# Altium schematic symbol library Booster_Board.SCHLIB: 28 symbols
Pins are listed as number, name and electrical type; pins without a type are passive.

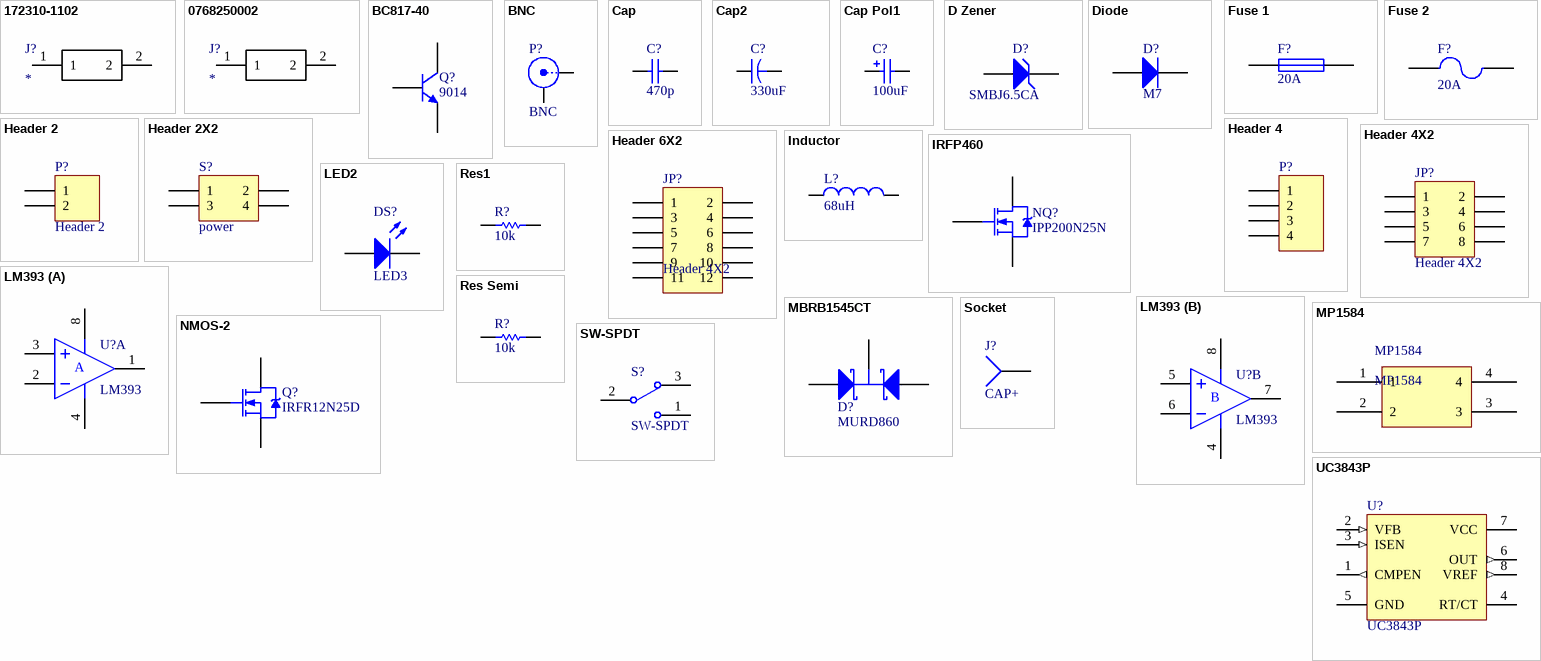
[diagram p0: symbols 172310-1102 to UC3843P]

## 172310-1102
designator J?
Connector; Manufacturer_Name: Molex; Manufacturer_Part_Number: 172310-1102; Allied_Number: 70617676; Datasheet Link: http://www.farnell.com/cad/1986622.pdf; Mouser Part Number: 538-172310-1102; Mouser Price/Stock: https://www.mouser.com/Search/Refine.aspx?Keyword=538-172310-1102; RS Part Number: 8951880; RS Price/Stock: http://uk.rs-online.com/web/p/products/8951880; Allied Price/Stock: http://www.alliedelec.com/molex-incorporated-172310-1102/70617676/
footprint 172310-1102
pins: 1, 2

## 0768250002
designator J?
Connector; Manufacturer_Name: Molex; Manufacturer_Part_Number: 0768250002; Datasheet Link: https://www.molex.com/pdm_docs/sd/768250002_sd.pdf; Height: 16mm; Mouser Part Number: N/A; Mouser Price/Stock: https://www.mouser.com/Search/Refine.aspx?Keyword=N%2FA
footprint 0768250002
pins: 1, 2

## BC817-40
designator Q?, comment 9014
NPN General Purpose Amplifier; Manufacturer: Fairchild Semiconductor; Revised: 11-July-2000: SIM Model Added.; Class: Discrete; SubClass: BJT - Low Power; Published: 8/06/2000; Publisher: Altium Hobart Technology Centre
footprint SOT23A (SOT-23; 3 Leads; Body 3.0 x 2.5 mm, inc. leads (LxW max))
simulation model BC817-40 (NPN)
signal-integrity model BC817-40
pins: 1 B, 2 E, 3 C

## BNC
designator P?
BNC Elbow Connector; LatestRevisionDate: 17-Jul-2002; LatestRevisionNote: Re-released for DXP Platform.; Publisher: Altium Limited
footprint 安装孔-3.5-5
signal-integrity model Connector
pins: 1 X, 2 Y

## Cap
designator C?, comment 470p
Capacitor; Manufacturer: Generic Components; Class: Passive; Published: 08/06/2000; Publisher: Altium Hobart Technology Centre; SubClass: Capacitor; Value: 470p
footprint RAD-0.3
simulation model CAP (Capacitor)
signal-integrity model Cap
footprint CC2012-0805
footprint 0805
footprint 0603
footprint 0805C
pins: 1, 2

## Cap2
designator C?, comment 330uF
Capacitor; Published: 23-Sep-2002; Publisher: Altium Limited
footprint J10
simulation model CAP (Capacitor)
signal-integrity model Cap
footprint Cap0.2
pins: 1, 2

## Cap Pol1
designator C?, comment 100uf
Polarized Capacitor (Radial); Manufacturer: Generic Components; Class: Passive; Published: 08/06/2000; Publisher: Altium Hobart Technology Centre; SubClass: Capacitor; Value: 100uF
simulation model CAP (Capacitor)
signal-integrity model Cap Pol
footprint J10
pins: 1, 2

## D Zener
designator D?, comment SMBJ6.5CA
Zener Diode; Published: 8-Jun-2000; LatestRevisionDate: 17-Jul-2002; LatestRevisionNote: Re-released for DXP Platform.; PackageReference: DIODE-0.7; Publisher: Altium Limited
simulation model ZENER (Diode)
signal-integrity model D Zener
footprint SMBJ6.5
pins: 1 A, 2 K

## Diode
designator D?, comment M7
Default Diode; Manufacturer: Generic Components; Class: Discrete; SubClass: Diode - Switching; Published: 08/06/2000; Publisher: Altium Hobart Technology Centre
footprint SMA
simulation model DIODE (Diode)
signal-integrity model Diode
pins: 1 A, 2 K

## Fuse 1
designator F?, comment 20A
Fuse; Published: 8-Jun-2000; LatestRevisionDate: 17-Jul-2002; LatestRevisionNote: Re-released for DXP Platform.; PackageReference: PIN-W2/E2.8; Publisher: Altium Limited
footprint SST-2N (贴片保险丝)
simulation model FUSE (Spice Subcircuit)
footprint 20A
pins: 1, 2

## Fuse 2
designator F?, comment 20A
Published: 8-Jun-2000; LatestRevisionDate: 17-Jul-2002; LatestRevisionNote: Re-released for DXP Platform.; Publisher: Altium Limited
footprint 20A
simulation model FUSE (Spice Subcircuit)
pins: 1, 2

## Header 2
designator P?
Header, 2-Pin; LatestRevisionDate: 17-Jul-2002; LatestRevisionNote: Re-released for DXP Platform.; Publisher: Altium Limited
footprint DC3 (DUALSKY电池插头)
signal-integrity model Connector
footprint source02
pins: 1, 2

## Header 2X2
designator S?, comment power
Header, 2-Pin, Dual row; LatestRevisionDate: 17-Jul-2002; LatestRevisionNote: Re-released for DXP Platform.; Publisher: Altium Limited
footprint A8L-21-11N2
signal-integrity model Connector
pins: 1, 2, 3, 4

## Header 4
designator P?
Header, 4-Pin; LatestRevisionDate: 17-Jul-2002; LatestRevisionNote: Re-released for DXP Platform.; Publisher: Altium Limited
footprint HDR1X4 (Connector; Header; 4 Position)
signal-integrity model Connector
footprint CONNECTOR_CAP
pins: 1, 2, 3, 4

## Header 4X2
designator JP?
Header, 4-Pin, Dual row; LatestRevisionDate: 17-Jul-2002; LatestRevisionNote: Re-released for DXP Platform.; Publisher: Altium Limited
footprint 2*4_2.5mm
signal-integrity model Connector
pins: 1, 2, 3, 4, 5, 6, 7, 8

## Header 6X2
designator JP?, comment Header 4X2
Header, 4-Pin, Dual row; LatestRevisionDate: 17-Jul-2002; LatestRevisionNote: Re-released for DXP Platform.; Publisher: Altium Limited
footprint 2*6_2.5mm (16V 12V 5V 3.3V)
pins: 1, 2, 3, 4, 5, 6, 7, 8, 9, 10, 11, 12

## Inductor
designator L?, comment 68uH
Inductor; Code_IEC: 1005; Published: 8-Jun-2000; LatestRevisionDate: 17-Jul-2002; LatestRevisionNote: Re-released for DXP Platform.; PackageReference: 0402-A; Publisher: Altium Limited; Code_JEITA: 0402
footprint L2
footprint INDC1608-0603 (Chip Inductor; Body 1.6 x 0.8 mm (LxW typ))
footprint INDC2010-0804 (2012 Chip; Chip Inductor; Body 2.0 x 1.2 mm (LxW typ))
footprint INDC2012-0805 (Chip Inductor; Body 2 x 1.2 mm (LxW typ))
footprint INDC3216-1206 (3216 Chip; Chip Inductor; Body 3.2 x 1.6 mm (LxW typ))
footprint INDC4510-1804 (4564 Chip; Chip Inductor; Body 4.5 x 6.4 mm (LxW typ))
simulation model INDUCTOR (Inductor)
signal-integrity model Inductor
pins: 1, 2

## IRFP460
designator NQ?, comment IPP200N25N
HEXFET Power MOSFET; Manufacturer: International Rectifier; Class: Discrete; SubClass: MOSFET - Power; Note: Pin 2 is electrically connected to the Heatsink (4).; Published: 8/06/2000; Publisher: Altium Hobart Technology Centre
footprint TO-247 (SIP with Mounting Hole; 3 Leads; Body 20 x 15.6 x 5 mm (typ); Pitch 5.45 mm)
pins: 1 G, 2 D, 3 S

## LED2
designator DS?, comment LED3
Typical RED, GREEN, YELLOW, AMBER GaAs LED; Published: 8-Jun-2000; LatestRevisionDate: 17-Jul-2002; LatestRevisionNote: Re-released for DXP Platform.; PackageDocument: Feb-2002; PackageReference: 3.2X1.6X1.1; Publisher: Altium Limited; COLOUR: GREEN
footprint 0805A
simulation model LED2 (Diode)
pins: 1 A, 2 K

## LM393
designator U?
footprint LM393_SO-G8 (Small Outline; 8 Leads; Body Width 3.9 mm; Pitch 1.27 mm)
part A pins: 1 OUT (power), 2 IN- (power), 3 IN+ (power), 4 V- (power), 8 V+ (power)
part B pins: 4 V- (power), 5 IN+ (power), 6 IN- (power), 7 OUT (power), 8 V+ (power)
part A text: A
part B text: B

## MBRB1545CT
designator D?, comment MURD860
Schottky Rectifier; Manufacturer: International Rectifier; Class: Discrete; SubClass: Rectifier - Schottky; Note: Terminal 2 is the TAB and is electrically connected to the cathode; Published: 8/06/2000; Publisher: Altium Hobart Technology Centre
footprint SIP-G3/Y2
signal-integrity model MBRB1545CT
footprint DPAK
pins: 1 A1, 2 K, 3 A2

## MP1584
designator MP1584
footprint 1584 (5V   3.3V 12V稳压模块)
pins: 1, 2, 3, 4

## NMOS-2
designator Q?, comment IRFR12N25D
N-Channel Power MOSFET; Note: Pin 2 is electrically connected to pin 4.; Published: 8-Jun-2000; LatestRevisionDate: 17-Jul-2002; LatestRevisionNote: Re-released for DXP Platform.; DatasheetDocument: PD-9.814; PackageReference: TO-220AB; Publisher: Altium Limited; Code_JEDEC: TO-220-AB
footprint DPAK
simulation model IRF1010 (Spice Subcircuit)
pins: 1 G, 2 D, 3 S

## Res1
designator R?, comment 10k
Resistor; Manufacturer: Generic Components; Class: Passive; Published: 08/06/2000; Publisher: Altium Hobart Technology Centre; SubClass: Resistor; Value: 10k
footprint AXIAL-0.3
simulation model RESISTOR (Resistor)
signal-integrity model Res1
footprint R2012-0805 (Model Description)
footprint AXIAL-0.5
footprint 0805
footprint 0603
footprint 0805R
pins: 1, 2

## Res Semi
designator R?, comment 10k
Semiconductor Resistor; Manufacturer: Generic Components; Class: Passive; Published: 08/06/2000; Publisher: Altium Hobart Technology Centre; SubClass: Resistor; Value: 10K
footprint R2012-0805
simulation model RES (Semiconductor Resistor)
signal-integrity model Res Semi
footprint 0805R
footprint 0603
pins: 1, 2

## Socket
designator J?, comment CAP+
Socket; LatestRevisionDate: 17-Jul-2002; LatestRevisionNote: Re-released for DXP Platform.; Publisher: Altium Limited
footprint PIN1
signal-integrity model Connector
pins: 1

## SW-SPDT
designator S?
SPDT Subminiature Toggle Switch, Right Angle Mounting, Vertical Actuation; Published: 24-Mar-1999; LatestRevisionDate: 17-Dec-2003; LatestRevisionNote: Schematic revised, PCB Footprint replaced.; DatasheetDocument: 05-Dec-2000; PackageReference: TL36WW15050; Publisher: Altium Limited; ComponentLink1Description: Manufacturer Link; ComponentLink1URL: http://www.apem.com
footprint 卧式开关-2 (开关)
pins: 1, 2, 3

## UC3843P
designator U?
Current-Mode PWM Controller; Published: 15-Apr-2002; LatestRevisionDate: 6-Jun-2005; LatestRevisionNote: Stylized 3D Model Added.; DatasheetDocument: Dec-1999; PackageDocument: Jun-1999; PackageReference: P008; Publisher: Altium Limited; Code_JEDEC: MO-001-AN; ComponentLink1Description: Manufacturer Link; ComponentLink1URL: http://www.ti.com/
footprint SO-G8 (Small Outline; 8 Leads; Body Width 3.9 mm; Pitch 1.27 mm)
3D model P008 (DIP; 8 Leads; Row Spacing 7.62 mm; Pitch 2.54 mm)
pins: 1 CMPEN (out), 2 VFB (in), 3 ISEN (in), 4 RT/CT, 5 GND (power), 6 OUT (out), 7 VCC (power), 8 VREF (out)